# Altium schematic symbol library 4.7uF_cap_C0805C375K_Components - 05.03.22 - 12.52.SchLib: 1 symbol
Pins are listed as number, name and electrical type; pins without a type are passive.

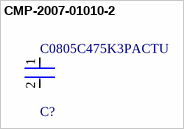
[diagram p0: symbol CMP-2007-01010-2]

## CMP-2007-01010-2
designator C?, comment C0805C475K3PACTU
CAP CER 4.7UF 25V X5R 0805; Tolerance: 10%; Dielectric Material: Ceramic; Dissipation Factor: 5%; Length: 2mm; Number of Pins: 2; Voltage Rating (DC): 25V; Depth: 1.25mm; Min Operating Temperature: -55°C; Capacitance: 4.7uF; Series: C0805C; Lead Free: Lead Free; Dielectric: X5R; REACH SVHC: No SVHC; Termination: SMD/SMT; Mount: PCB; Package Quantity: 2500; Contact Plating: Tin; Case Code (Imperial): 0805; Max Operating Temperature: 85°C; Width: 1.2mm; Voltage: 25V; Case/Package: 0805; Packaging: Tape and Reel; Height: 1.25mm; RoHS Compliant: Yes; Construction: Flat; Case Code (Metric): 2012; Radiation Hardening: No
footprint FP-C0805C475K3PACTU-MFG
footprint FP-C0805C475K3PACTU-IPC_B
footprint FP-C0805C475K3PACTU-IPC_C
footprint FP-C0805C475K3PACTU-IPC_A
pins: 1, 2